# EAGLE library part TL071 (library lightsuits)
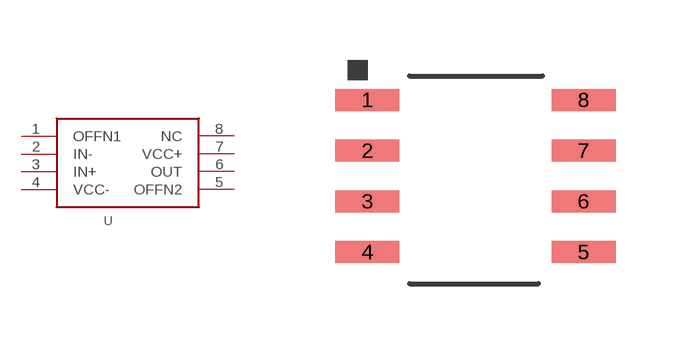
[diagram p1: symbol with the pads of 8-SOIC; footprint 8-SOIC]

Designator prefix -

## TL071  [8-SOIC]
1  OFFN1
2  IN-
3  IN+
4  VCC-
5  OFFN2
6  OUT
7  VCC+
8  NC

## Footprint 8-SOIC (pad centres in mm)
smd 1.6 x 0.55: 1 0,0; 2 0,-1.27; 3 0,-2.54; 4 0,-3.81; 5 5.4,-3.81; 6 5.4,-2.54; 7 5.4,-1.27; 8 5.4,0